# EAGLE library part ISP (library Eagle-Lib)
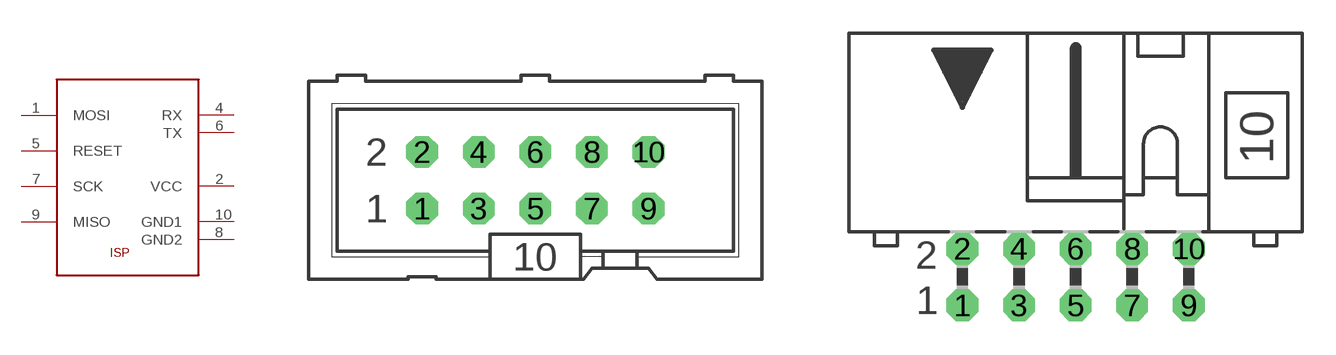
[diagram p1: symbol with the pads of ML10; footprints ML10, ML10L]

Designator prefix -

## ISPML10  [ML10]
1  MOSI
2  VCC
4  RX
5  RESET
6  TX
7  SCK
8  GND2
9  MISO
10  GND1

## ISPML10L  [ML10L]
Pads as for ML10

## ISP  [2X5W]
Pads as for ML10

## Footprint ML10 (pad centres in mm)
drill 0.914 octagon: 1 -5.08,-1.27; 2 -5.08,1.27; 3 -2.54,-1.27; 4 -2.54,1.27; 5 0,-1.27; 6 0,1.27; 7 2.54,-1.27; 8 2.54,1.27; 9 5.08,-1.27; 10 5.08,1.27

## Footprint ML10L (pad centres in mm)
drill 0.914 octagon: 1 -5.08,-3.81; 2 -5.08,-1.27; 3 -2.54,-3.81; 4 -2.54,-1.27; 5 0,-3.81; 6 0,-1.27; 7 2.54,-3.81; 8 2.54,-1.27; 9 5.08,-3.81; 10 5.08,-1.27

## Footprint 2X5W (pad centres in mm)
drill 1.016 octagon: 1 -5.08,-5.08; 2 -5.08,-2.54; 3 -2.54,-5.08; 4 -2.54,-2.54; 5 0,-5.08; 6 0,-2.54; 7 2.54,-5.08; 8 2.54,-2.54; 9 5.08,-5.08; 10 5.08,-2.54